# EAGLE library part XC95216-1 (library XILINX)
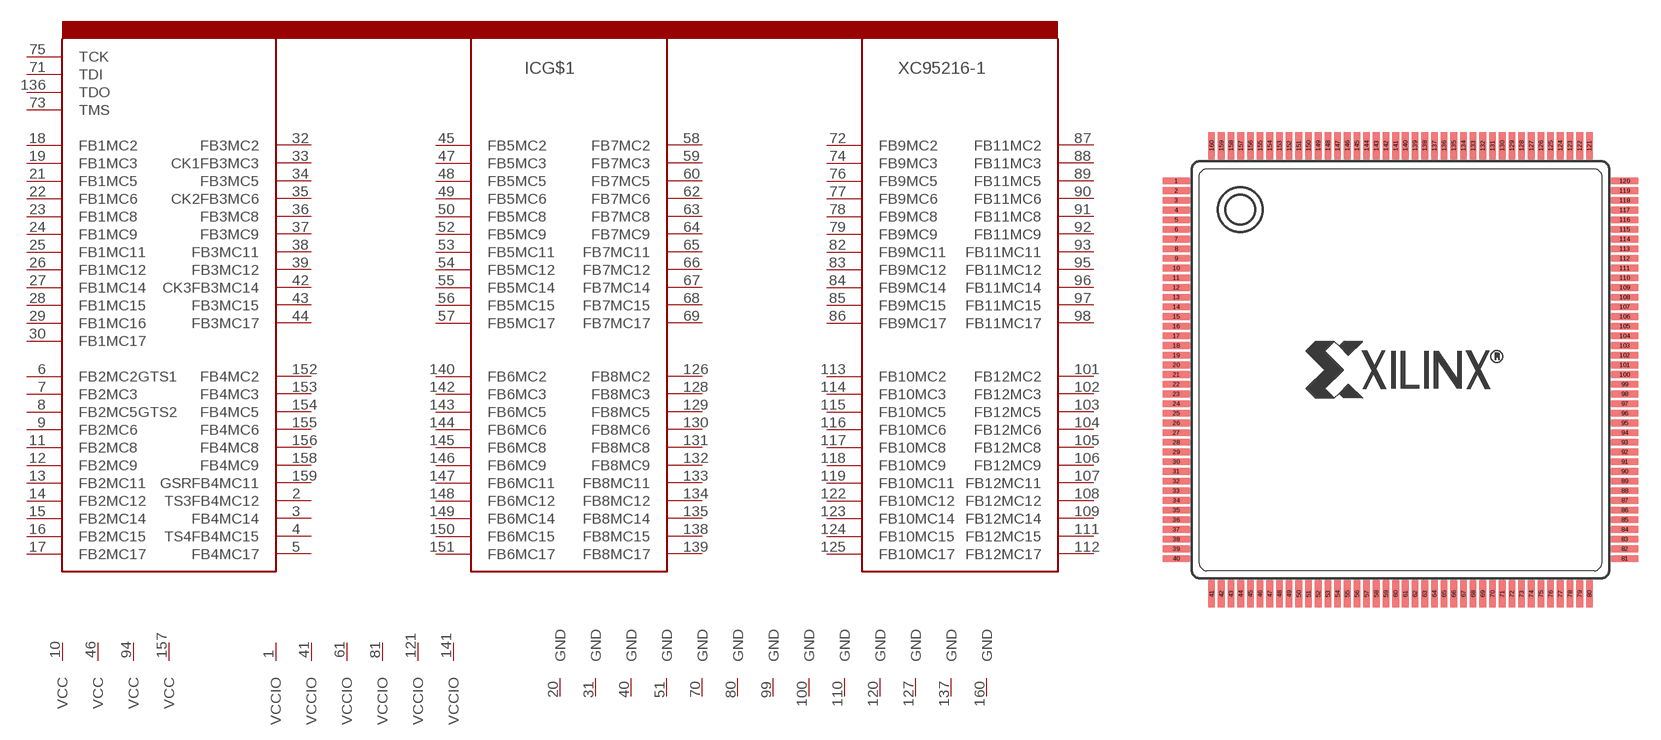
[diagram p4: symbol with the pads of PQ160; footprint PQ160]

Designator prefix IC; gates VCC1=VCCINT VCC2=VCCINT VCC3=VCCINT VCC4=VCCINT VCCIO1=VCCIO VCCIO2=VCCIO VCCIO3=VCCIO VCCIO4=VCCIO VCCIO5=VCCIO VCCIO6=VCCIO GND1=GND GND2=GND GND3=GND GND4=GND GND5=GND GND6=GND GND7=GND GND8=GND GND9=GND GND10=GND GND11=GND GND12=GND GND13=GND G$1=XC95261A

## XC95216-1  [PQ160]
1  VCCIO1:VCCIO  pwr
2  G$1:TS3FB4MC12
3  G$1:FB4MC14
4  G$1:TS4FB4MC15
5  G$1:FB4MC17
6  G$1:FB2MC2GTS1
7  G$1:FB2MC3
8  G$1:FB2MC5GTS2
9  G$1:FB2MC6
10  VCC1:VCC  pwr
11  G$1:FB2MC8
12  G$1:FB2MC9
13  G$1:FB2MC11
14  G$1:FB2MC12
15  G$1:FB2MC14
16  G$1:FB2MC15
17  G$1:FB2MC17
18  G$1:FB1MC2
19  G$1:FB1MC3
20  GND1:GND  pwr
21  G$1:FB1MC5
22  G$1:FB1MC6
23  G$1:FB1MC8
24  G$1:FB1MC9
25  G$1:FB1MC11
26  G$1:FB1MC12
27  G$1:FB1MC14
28  G$1:FB1MC15
29  G$1:FB1MC16
30  G$1:FB1MC17
31  GND2:GND  pwr
32  G$1:FB3MC2
33  G$1:CK1FB3MC3
34  G$1:FB3MC5
35  G$1:CK2FB3MC6
36  G$1:FB3MC8
37  G$1:FB3MC9
38  G$1:FB3MC11
39  G$1:FB3MC12
40  GND3:GND  pwr
41  VCCIO2:VCCIO  pwr
42  G$1:CK3FB3MC14
43  G$1:FB3MC15
44  G$1:FB3MC17
45  G$1:FB5MC2
46  VCC2:VCC  pwr
47  G$1:FB5MC3
48  G$1:FB5MC5
49  G$1:FB5MC6
50  G$1:FB5MC8
51  GND4:GND  pwr
52  G$1:FB5MC9
53  G$1:FB5MC11
54  G$1:FB5MC12
55  G$1:FB5MC14
56  G$1:FB5MC15
57  G$1:FB5MC17
58  G$1:FB7MC2
59  G$1:FB7MC3
60  G$1:FB7MC5
61  VCCIO3:VCCIO  pwr
62  G$1:FB7MC6
63  G$1:FB7MC8
64  G$1:FB7MC9
65  G$1:FB7MC11
66  G$1:FB7MC12
67  G$1:FB7MC14
68  G$1:FB7MC15
69  G$1:FB7MC17
70  GND5:GND  pwr
71  G$1:TDI  in
72  G$1:FB9MC2
73  G$1:TMS  in
74  G$1:FB9MC3
75  G$1:TCK  in
76  G$1:FB9MC5
77  G$1:FB9MC6
78  G$1:FB9MC8
79  G$1:FB9MC9
80  GND6:GND  pwr
81  VCCIO4:VCCIO  pwr
82  G$1:FB9MC11
83  G$1:FB9MC12
84  G$1:FB9MC14
85  G$1:FB9MC15
86  G$1:FB9MC17
87  G$1:FB11MC2
88  G$1:FB11MC3
89  G$1:FB11MC5
90  G$1:FB11MC6
91  G$1:FB11MC8
92  G$1:FB11MC9
93  G$1:FB11MC11
94  VCC3:VCC  pwr
95  G$1:FB11MC12
96  G$1:FB11MC14
97  G$1:FB11MC15
98  G$1:FB11MC17
99  GND7:GND  pwr
100  GND8:GND  pwr
101  G$1:FB12MC2
102  G$1:FB12MC3
103  G$1:FB12MC5
104  G$1:FB12MC6
105  G$1:FB12MC8
106  G$1:FB12MC9
107  G$1:FB12MC11
108  G$1:FB12MC12
109  G$1:FB12MC14
110  GND9:GND  pwr
111  G$1:FB12MC15
112  G$1:FB12MC17
113  G$1:FB10MC2
114  G$1:FB10MC3
115  G$1:FB10MC5
116  G$1:FB10MC6
117  G$1:FB10MC8
118  G$1:FB10MC9
119  G$1:FB10MC11
120  GND10:GND  pwr
121  VCCIO5:VCCIO  pwr
122  G$1:FB10MC12
123  G$1:FB10MC14
124  G$1:FB10MC15
125  G$1:FB10MC17
126  G$1:FB8MC2
127  GND11:GND  pwr
128  G$1:FB8MC3
129  G$1:FB8MC5
130  G$1:FB8MC6
131  G$1:FB8MC8
132  G$1:FB8MC9
133  G$1:FB8MC11
134  G$1:FB8MC12
135  G$1:FB8MC14
136  G$1:TDO  in
137  GND12:GND  pwr
138  G$1:FB8MC15
139  G$1:FB8MC17
140  G$1:FB6MC2
141  VCCIO6:VCCIO  pwr
142  G$1:FB6MC3
143  G$1:FB6MC5
144  G$1:FB6MC6
145  G$1:FB6MC8
146  G$1:FB6MC9
147  G$1:FB6MC11
148  G$1:FB6MC12
149  G$1:FB6MC14
150  G$1:FB6MC15
151  G$1:FB6MC17
152  G$1:FB4MC2
153  G$1:FB4MC3
154  G$1:FB4MC5
155  G$1:FB4MC6
156  G$1:FB4MC8
157  VCC4:VCC  pwr
158  G$1:FB4MC9
159  G$1:GSRFB4MC11
160  GND13:GND  pwr

## Footprint PQ160 (pad centres in mm)
smd 1.8 x 0.45: 1 -15.05,12.675; 2 -15.05,12.025; 3 -15.05,11.375; 4 -15.05,10.725; 5 -15.05,10.075; 6 -15.05,9.425; 7 -15.05,8.775; 8 -15.05,8.125; 9 -15.05,7.475; 10 -15.05,6.825; 11 -15.05,6.175; 12 -15.05,5.525; 13 -15.05,4.875; 14 -15.05,4.225; 15 -15.05,3.575; 16 -15.05,2.925; 17 -15.05,2.275; 18 -15.05,1.625; 19 -15.05,0.975; 20 -15.05,0.325; 21 -15.05,-0.325; 22 -15.05,-0.975; 23 -15.05,-1.625; 24 -15.05,-2.275; 25 -15.05,-2.925; 26 -15.05,-3.575; 27 -15.05,-4.225; 28 -15.05,-4.875; 29 -15.05,-5.525; 30 -15.05,-6.175; 31 -15.05,-6.825; 32 -15.05,-7.475; 33 -15.05,-8.125; 34 -15.05,-8.775; 35 -15.05,-9.425; 36 -15.05,-10.075; 37 -15.05,-10.725; 38 -15.05,-11.375; 39 -15.05,-12.025; 40 -15.05,-12.675; 81 15.05,-12.675; 82 15.05,-12.025; 83 15.05,-11.375; 84 15.05,-10.725; 85 15.05,-10.075; 86 15.05,-9.425; 87 15.05,-8.775; 88 15.05,-8.125; 89 15.05,-7.475; 90 15.05,-6.825; 91 15.05,-6.175; 92 15.05,-5.525; 93 15.05,-4.875; 94 15.05,-4.225; 95 15.05,-3.575; 96 15.05,-2.925; 97 15.05,-2.275; 98 15.05,-1.625; 99 15.05,-0.975; 100 15.05,-0.325; 101 15.05,0.325; 102 15.05,0.975; 103 15.05,1.625; 104 15.05,2.275; 105 15.05,2.925; 106 15.05,3.575; 107 15.05,4.225; 108 15.05,4.875; 109 15.05,5.525; 110 15.05,6.175; 111 15.05,6.825; 112 15.05,7.475; 113 15.05,8.125; 114 15.05,8.775; 115 15.05,9.425; 116 15.05,10.075; 117 15.05,10.725; 118 15.05,11.375; 119 15.05,12.025; 120 15.05,12.675
smd 0.45 x 1.8: 41 -12.675,-15.05; 42 -12.025,-15.05; 43 -11.375,-15.05; 44 -10.725,-15.05; 45 -10.075,-15.05; 46 -9.425,-15.05; 47 -8.775,-15.05; 48 -8.125,-15.05; 49 -7.475,-15.05; 50 -6.825,-15.05; 51 -6.175,-15.05; 52 -5.525,-15.05; 53 -4.875,-15.05; 54 -4.225,-15.05; 55 -3.575,-15.05; 56 -2.925,-15.05; 57 -2.275,-15.05; 58 -1.625,-15.05; 59 -0.975,-15.05; 60 -0.325,-15.05; 61 0.325,-15.05; 62 0.975,-15.05; 63 1.625,-15.05; 64 2.275,-15.05; 65 2.925,-15.05; 66 3.575,-15.05; 67 4.225,-15.05; 68 4.875,-15.05; 69 5.525,-15.05; 70 6.175,-15.05; 71 6.825,-15.05; 72 7.475,-15.05; 73 8.125,-15.05; 74 8.775,-15.05; 75 9.425,-15.05; 76 10.075,-15.05; 77 10.725,-15.05; 78 11.375,-15.05; 79 12.025,-15.05; 80 12.675,-15.05; 121 12.675,15.05; 122 12.025,15.05; 123 11.375,15.05; 124 10.725,15.05; 125 10.075,15.05; 126 9.425,15.05; 127 8.775,15.05; 128 8.125,15.05; 129 7.475,15.05; 130 6.825,15.05; 131 6.175,15.05; 132 5.525,15.05; 133 4.875,15.05; 134 4.225,15.05; 135 3.575,15.05; 136 2.925,15.05; 137 2.275,15.05; 138 1.625,15.05; 139 0.975,15.05; 140 0.325,15.05; 141 -0.325,15.05; 142 -0.975,15.05; 143 -1.625,15.05; 144 -2.275,15.05; 145 -2.925,15.05; 146 -3.575,15.05; 147 -4.225,15.05; 148 -4.875,15.05; 149 -5.525,15.05; 150 -6.175,15.05; 151 -6.825,15.05; 152 -7.475,15.05; 153 -8.125,15.05; 154 -8.775,15.05; 155 -9.425,15.05; 156 -10.075,15.05; 157 -10.725,15.05; 158 -11.375,15.05; 159 -12.025,15.05; 160 -12.675,15.05